# EAGLE library part LTM8040 (library MakeItLabs)
LED Driver 36V 1Amp Constant current SMT 15mm x 9mm x 5mm
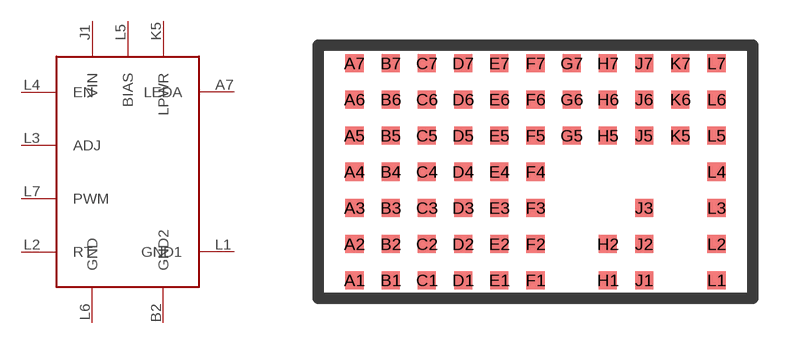
[diagram p0: symbol with the pads of LTM8040; footprint LTM8040]

Designator prefix -

## LTM8040  [LTM8040]
A7  LEDA  out
B2  GND2  pwr
J1  VIN  pwr
K5  LPWR
L1  GND1  pwr
L2  RT  in
L3  ADJ  in
L4  EN  in
L5  BIAS
L6  GND  pwr
L7  PWM  in

## Footprint LTM8040 (pad centres in mm)
SMT 15mm x 9mm x 5mm
smd 0.635 x 0.635: A1 -6.35,-3.81; A2 -6.35,-2.54; A3 -6.35,-1.27; A4 -6.35,0; A5 -6.35,1.27; A6 -6.35,2.54; A7 -6.35,3.81; B1 -5.08,-3.81; B2 -5.08,-2.54; B3 -5.08,-1.27; B4 -5.08,0; B5 -5.08,1.27; B6 -5.08,2.54; B7 -5.08,3.81; C1 -3.81,-3.81; C2 -3.81,-2.54; C3 -3.81,-1.27; C4 -3.81,0; C5 -3.81,1.27; C6 -3.81,2.54; C7 -3.81,3.81; D1 -2.54,-3.81; D2 -2.54,-2.54; D3 -2.54,-1.27; D4 -2.54,0; D5 -2.54,1.27; D6 -2.54,2.54; D7 -2.54,3.81; E1 -1.27,-3.81; E2 -1.27,-2.54; E3 -1.27,-1.27; E4 -1.27,0; E5 -1.27,1.27; E6 -1.27,2.54; E7 -1.27,3.81; F1 0,-3.81; F2 0,-2.54; F3 0,-1.27; F4 0,0; F5 0,1.27; F6 0,2.54; F7 0,3.81; G5 1.27,1.27; G6 1.27,2.54; G7 1.27,3.81; H1 2.54,-3.81; H2 2.54,-2.54; H5 2.54,1.27; H6 2.54,2.54; H7 2.54,3.81; J1 3.81,-3.81; J2 3.81,-2.54; J3 3.81,-1.27; J5 3.81,1.27; J6 3.81,2.54; J7 3.81,3.81; K5 5.08,1.27; K6 5.08,2.54; K7 5.08,3.81; L1 6.35,-3.81; L2 6.35,-2.54; L3 6.35,-1.27; L4 6.35,0; L5 6.35,1.27; L6 6.35,2.54; L7 6.35,3.81